# Altium schematic symbol library xfmr_4.Schlib: 1 symbol
Pins are listed as number, name and electrical type; pins without a type are passive.

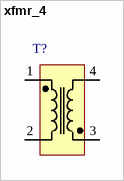
[diagram p0: symbol xfmr_4]

## xfmr_4
designator T?  (value not drawn)
Pulse Transformer
pins: 1, 2, 3, 4